# EAGLE library part NUP4202 (library USB_Isolator)
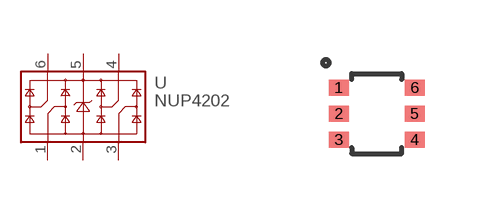
[diagram p1: symbol with the pads of SOT-363; footprint SOT-363]

Designator prefix U

## NUP4202  [SOT-363]
1  IO1
2  VN  pwr
3  IO3
4  IO4
5  VP  pwr
6  IO6

## Footprint SOT-363 (pad centres in mm)
smd 0.5 x 0.4: 1 -0.95,0.65; 2 -0.95,0; 3 -0.95,-0.65; 4 0.95,-0.65; 5 0.95,0; 6 0.95,0.65